# Altium schematic symbol library IMTP_Разъемы.SchLib: 24 symbols
Pins are listed as number, name and electrical type; pins without a type are passive.

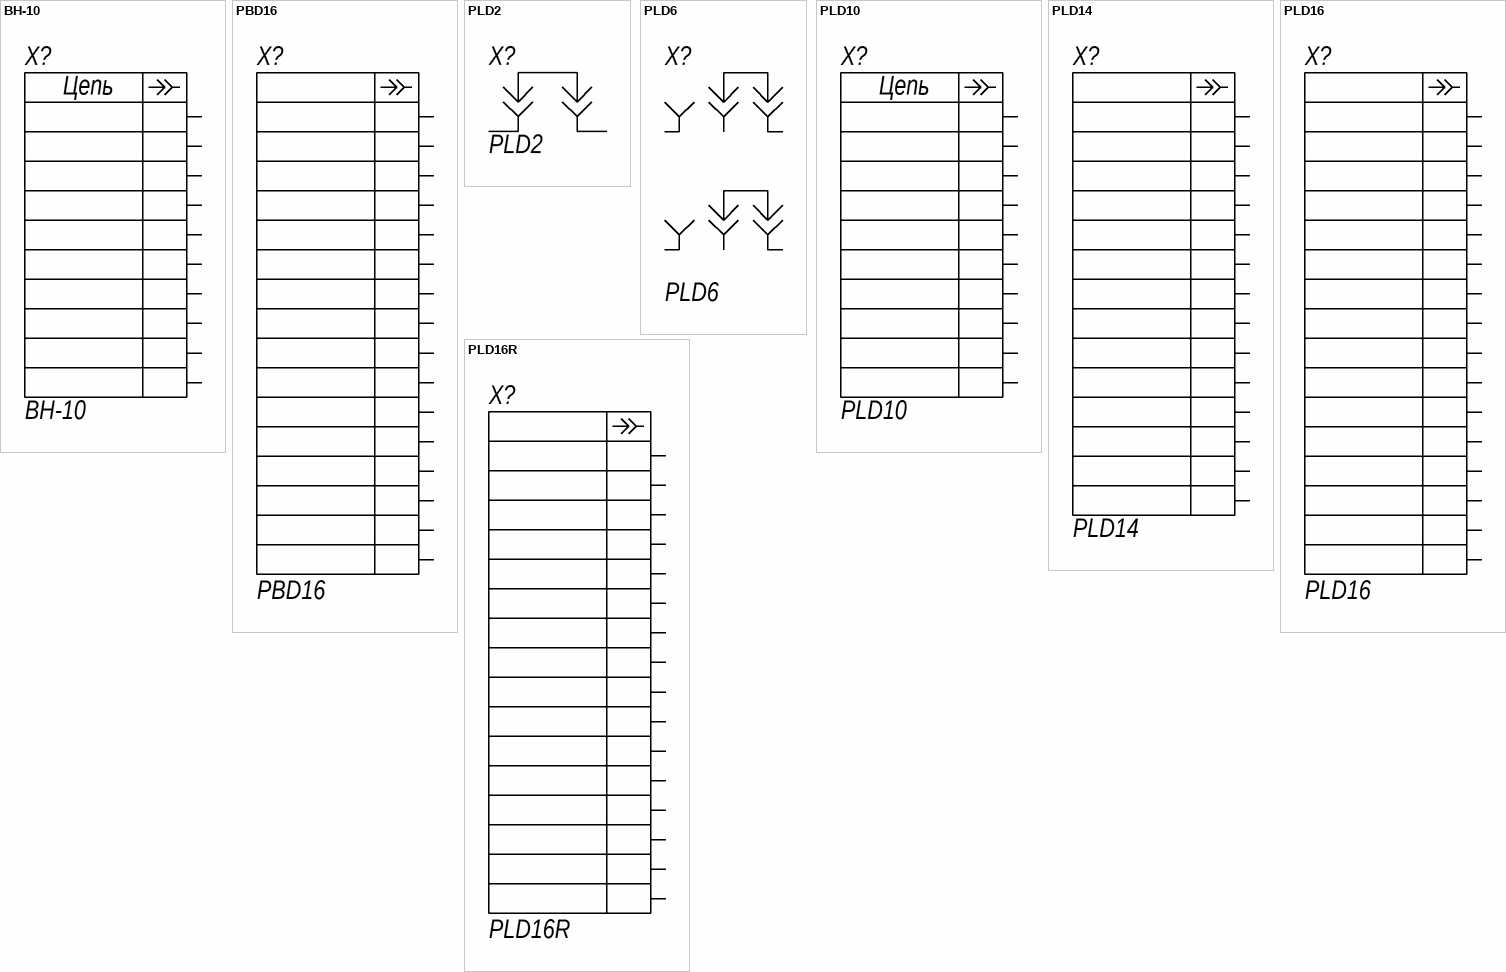
[diagram p0: symbols BH-10 to PLD16R]

## BH-10
designator X?
OutComment: BH-10; Name: BH-10; LatestRevisionDate: 22.03.2010; PackageDescription: *; Publisher: IMTP FEB RAS
footprint IDC10
pins: 1, 2, 3, 4, 5, 6, 7, 8, 9, 10
text: Цепь

## PBD16
designator X?
OutComment: PBD16; Name: PBD16; LatestRevisionDate: 22.03.2010; PackageDescription: *; Publisher: IMTP FEB RAS
footprint PBD16
pins: 1, 2, 3, 4, 5, 6, 7, 8, 9, 10, 11, 12, 13, 14, 15, 16

## PLD2
designator X?
LatestRevisionDate: 25.03.2010; Name: PLD2; OutComment: PLD2; PackageDescription: L0805; Publisher: IMTP FEB RAS
footprint PLD2
pins: 1, 2

## PLD6
designator X?
LatestRevisionDate: 25.03.2010; Name: PLD6; OutComment: PLD6; PackageDescription: L0805; Publisher: IMTP FEB RAS
footprint PLD6
pins: 1, 2, 3, 4, 5, 6

## PLD10
designator X?
OutComment: PLD10; Name: PLD10; LatestRevisionDate: 22.03.2010; PackageDescription: *; Publisher: IMTP FEB RAS
footprint PLD10
pins: 1, 2, 3, 4, 5, 6, 7, 8, 9, 10
text: Цепь

## PLD14
designator X?
OutComment: PBD16; Name: PLD14; LatestRevisionDate: 22.03.2010; PackageDescription: *; Publisher: IMTP FEB RAS
pins: 1, 2, 3, 4, 5, 6, 7, 8, 9, 10, 11, 12, 13, 14

## PLD16
designator X?
OutComment: PLD16; Name: PLD16; LatestRevisionDate: 22.03.2010; PackageDescription: *; Publisher: IMTP FEB RAS
footprint PLD16
pins: 1, 2, 3, 4, 5, 6, 7, 8, 9, 10, 11, 12, 13, 14, 15, 16

## PLD16R
designator X?
OutComment: PLD16R; Name: PLD16R; LatestRevisionDate: 22.03.2010; PackageDescription: *; Publisher: IMTP FEB RAS
footprint PLD16R
pins: 1, 2, 3, 4, 5, 6, 7, 8, 9, 10, 11, 12, 13, 14, 15, 16

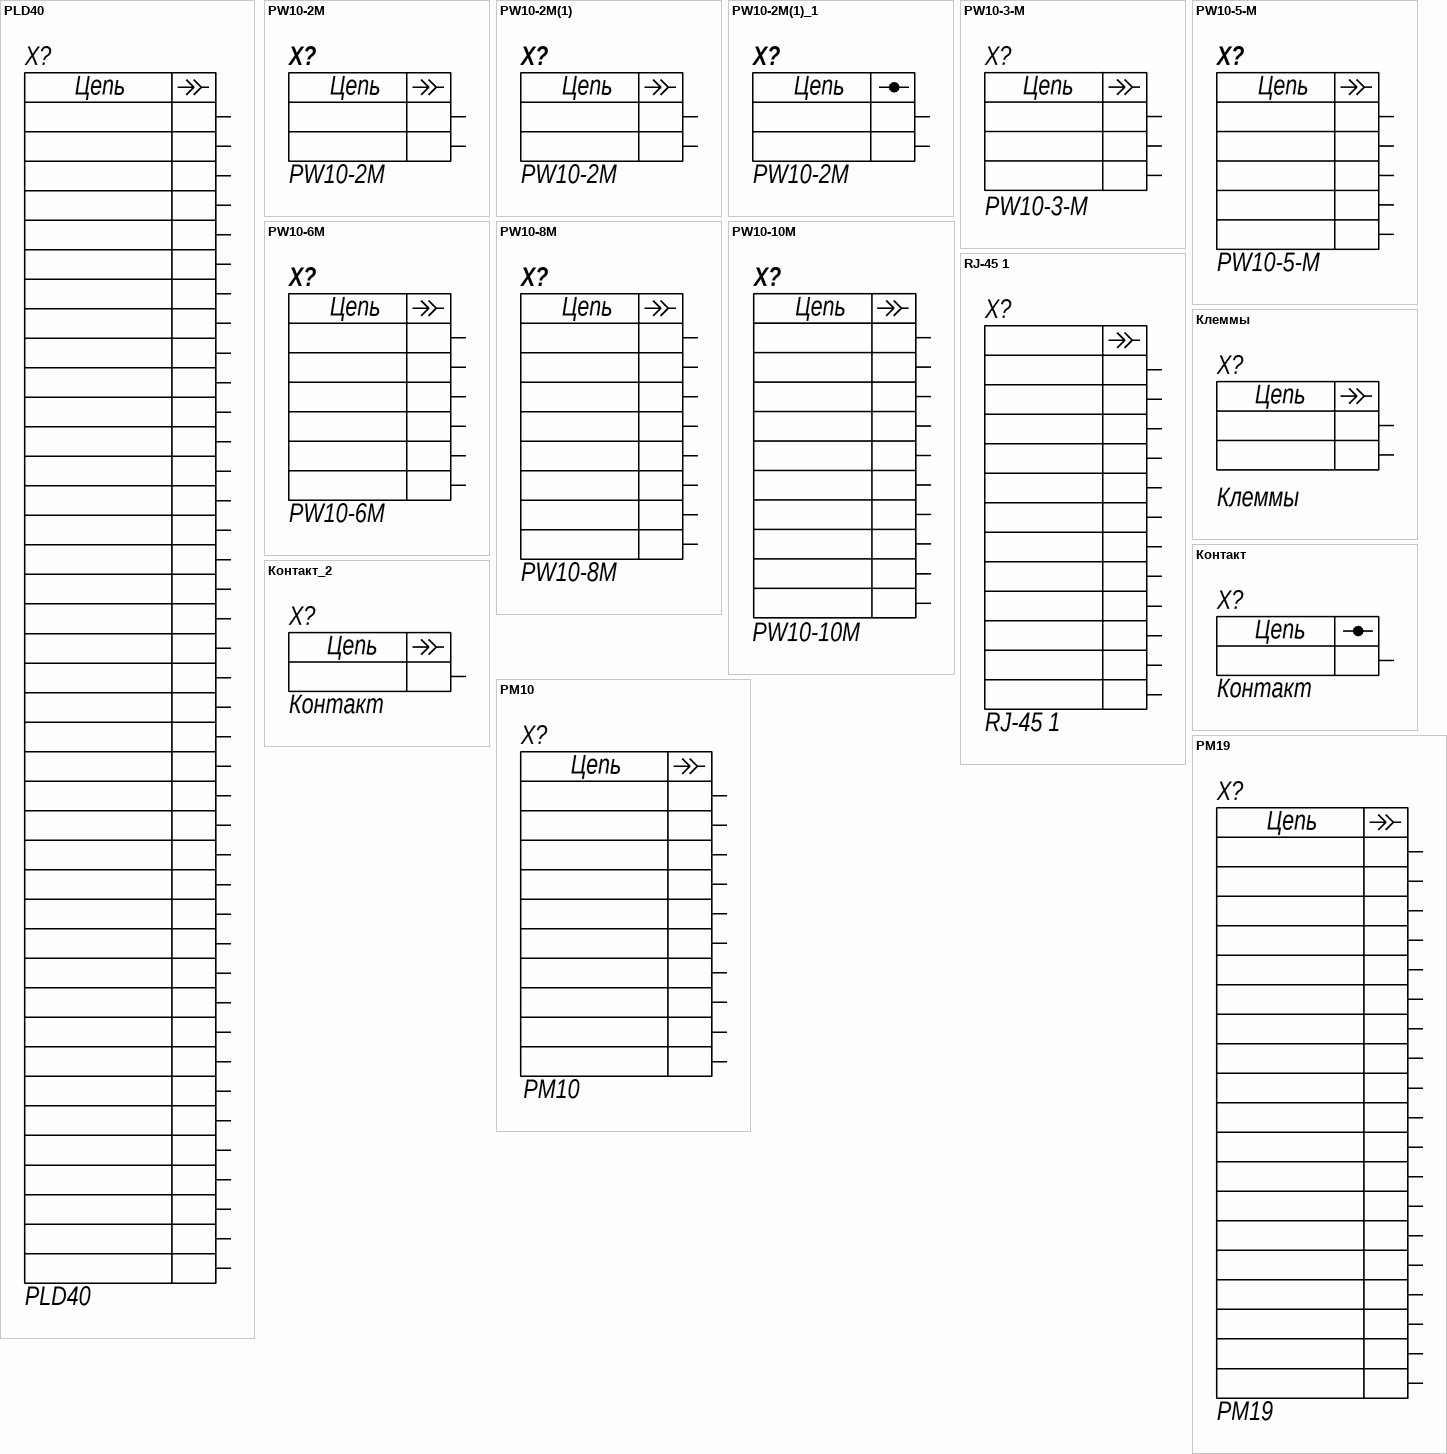
[diagram p1: symbols PLD40 to РМ19]

## PLD40
designator X?
OutComment: PLD40; Name: PLD40; LatestRevisionDate: 22.03.2010; PackageDescription: *; Publisher: IMTP FEB RAS
pins: 1, 2, 3, 4, 5, 6, 7, 8, 9, 10, 11, 12, 13, 14, 15, 16, 17, 18, 19, 20, 21, 22, 23, 24, 25, 26, 27, 28, 29, 30, 31, 32, 33, 34, 35, 36, 37, 38, 39, 40
text: Цепь

## PW10-2M
designator X?
OutComment: PW10-2M; Name: PW10-2M; LatestRevisionDate: 22.03.2010; PackageDescription: *; Publisher: IMTP FEB RAS
footprint PW10-2M
pins: 1, 2
text: Цепь

## PW10-2M(1)
designator X?, comment PW10-2M
OutComment: PW10-2M; Name: PW10-2M; LatestRevisionDate: 22.03.2010; PackageDescription: *; Publisher: IMTP FEB RAS
footprint PW10-2M
pins: 1, 2
text: Цепь

## PW10-2M(1)_1
designator X?, comment PW10-2M
OutComment: PW10-2M; Name: PW10-2M; LatestRevisionDate: 22.03.2010; PackageDescription: *; Publisher: IMTP FEB RAS
footprint PW10-2M
pins: 1, 2
text: Цепь

## PW10-3-M
designator X?
OutComment: PW10-3-M; Name: PW10-3-M; LatestRevisionDate: 22.03.2010; PackageDescription: *; Publisher: IMTP FEB RAS
footprint PW10-3M
pins: 1, 2, 3
text: Цепь

## PW10-5-M
designator X?
OutComment: PW10-5-M; Name: PW10-5-M; LatestRevisionDate: 22.03.2010; PackageDescription: *; Publisher: IMTP FEB RAS
footprint PW10-5M
pins: 1, 2, 3, 4, 5
text: Цепь

## PW10-6M
designator X?
OutComment: PW10-6M; Name: PW10-6M; LatestRevisionDate: 22.03.2010; PackageDescription: *; Publisher: IMTP FEB RAS
footprint PW10-6M
pins: 1, 2, 3, 4, 5, 6
text: Цепь

## PW10-8M
designator X?
OutComment: PW10-8M; Name: PW10-8M; LatestRevisionDate: 22.03.2010; PackageDescription: *; Publisher: IMTP FEB RAS
footprint PW10-8M
pins: 1, 2, 3, 4, 5, 6, 7, 8
text: Цепь

## PW10-10M
designator X?
OutComment: PW10-10M; Name: PW10-10M; LatestRevisionDate: 22.03.2010; PackageDescription: *; Publisher: IMTP FEB RAS
footprint PW10-10M
pins: 1, 2, 3, 4, 5, 6, 7, 8, 9, 10
text: Цепь

## RJ-45 1
designator X?
OutComment: PLD16; Name: PLD16; LatestRevisionDate: 22.03.2010; PackageDescription: *; Publisher: IMTP FEB RAS
footprint PLD16
pins: 1, 2, 3, 4, 5, 6, 7, 8, 9, 10, 11, 12

## Клеммы
designator X?
OutComment: Клеммы; Name: Клеммы; LatestRevisionDate: 22.03.2010; PackageDescription: *; Publisher: IMTP FEB RAS
pins: 1, 2
text: Цепь

## Контакт
designator X?
OutComment: Контакт; Name: Контакт; LatestRevisionDate: 22.03.2010; PackageDescription: *; Publisher: IMTP FEB RAS
footprint Контакт
pins: 1
text: Цепь

## Контакт_2
designator X?, comment Контакт
OutComment: Контакт; Name: Контакт; LatestRevisionDate: 22.03.2010; PackageDescription: *; Publisher: IMTP FEB RAS
footprint Контакт d1
footprint Контакт d1.5
pins: 1
text: Цепь

## РМ10
designator X?
OutComment: 2РМТ22КПН10Г1А1В; Name: РМ10; LatestRevisionDate: 22.03.2010; PackageDescription: *; Publisher: IMTP FEB RAS
pins: 1, 2, 3, 4, 5, 6, 7, 8, 9, 10
text: Цепь

## РМ19
designator X?
OutComment: 2РМТ24КПН19Г1А1В; Name: РМ19; LatestRevisionDate: 22.03.2010; PackageDescription: *; Publisher: IMTP FEB RAS
pins: 1, 2, 3, 4, 5, 6, 7, 8, 9, 10, 11, 12, 13, 14, 15, 16, 17, 18, 19
text: Цепь

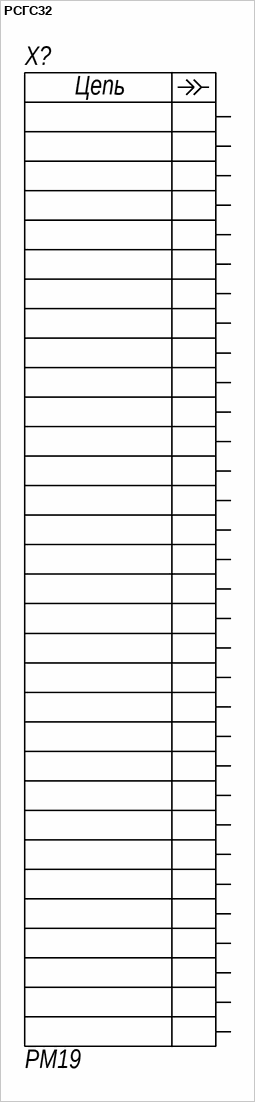
[diagram p2: symbol РСГС32]

## РСГС32
designator X?, comment РМ19
OutComment: 2РМТ24КПН19Г1А1В; Name: РМ19; LatestRevisionDate: 22.03.2010; PackageDescription: *; Publisher: IMTP FEB RAS
pins: 1, 1, 2, 2, 3, 3, 4, 4, 5, 5, 6, 6, 7, 7, 8, 8, 9, 9, 10, 10, 11, 11, 12, 12, 13, 13, 14, 15, 16, 17, 18, 19
text: Цепь